# Altium footprint library STEP-footprint(24-05-26)12-08.PcbLib: 9 footprints
Each footprint in its own frame and in the unit in brackets; x right, y up, seen from the top. Pads: shape width x height; smd on the part's side, far side on the other; paste and mask are expansions set on the pad; w line width, h text height; cw(c..) or ccw(c..) is an arc to the next point about the centre after c.
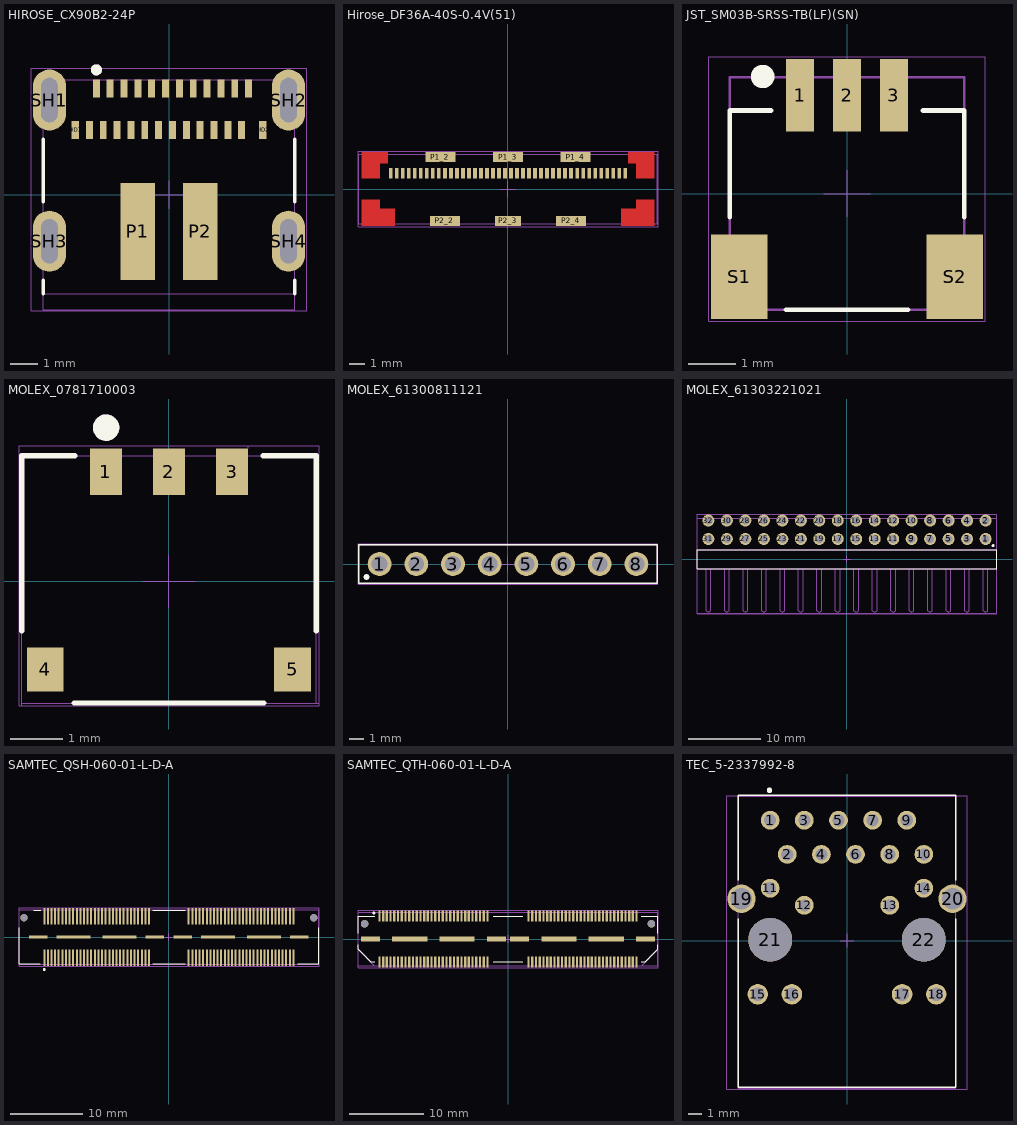
[diagram p0: the footprints below, top view; thin cyan lines are the x and y axes]

## HIROSE_CX90B2-24P [mm] "USB-C (USB TYPE-C) USB 3.2 Gen 2 (USB 3.1 Gen 2, Superspeed + (USB 3.1)) Receptacle Connector 24 Position Surface Mount, Right Angle; Through Hole"
height 3.32
pads (32):
  rect 0.25x0.65 smd: A1(-2.625,3.85) A2(-2.125,3.85) A3(-1.625,3.85) A4(-1.125,3.85) A5(-0.625,3.85) A6(-0.125,3.85) A7(0.375,3.85) A8(0.875,3.85) A9(1.375,3.85) A10(1.875,3.85) A11(2.375,3.85) A12(2.875,3.85) B1(2.625,2.35) B2(2.125,2.35) B3(1.625,2.35) B4(1.125,2.35) B5(0.625,2.35) B6(0.125,2.35) B7(-0.375,2.35) B8(-0.875,2.35) B9(-1.375,2.35) B10(-1.875,2.35) B11(-2.375,2.35) B12(-2.875,2.35)
  rect 0.27x0.65 smd: MID1(-3.385,2.35) MID2(3.385,2.35)
  rect 1.25x3.5 smd: P1(-1.125,-1.325) P2(1.125,-1.325)
  oval 1.2x2.2 hole 0.6 slot 1.6 at 90 deg: SH1(-4.32,3.425) SH2(4.32,3.425) SH3(-4.32,-1.675) SH4(4.32,-1.675)
Top Overlay:
  circle w0.2: c-2.625,4.516 r0.1
  lines w0.127: -4.545,-3.575 -4.545,-3.095 ; -4.545,-0.255 -4.545,2.005 ; 4.545,-3.575 4.545,-3.095 ; 4.545,-0.255 4.545,2.005
Top Assembly:
  circle w0.2: c-2.625,4.516 r0.1
  lines w0.01: -4.47,-3.575 4.47,-3.575 ; -0.5,0 0.5,0 ; 0,-0.5 0,0.5 ; -4.545,-4.145 -4.545,4.155 4.545,4.155 4.545,-4.145 -4.545,-4.145
  text "PCB EDGE" at -2.87,-3.378 h0.81
Top 3D Body:
  lines w0.01: -4.545,-4.145 4.545,-4.145 4.545,4.155 -4.545,4.155 -4.545,-4.145
Top Courtyard:
  lines w0.01: 4.97,-4.195 4.97,4.575 ; 4.97,-4.195 -4.97,-4.195 -4.97,4.575 4.97,4.575 ; 4.97,-4.195 4.97,4.575
3D body "CX90B2-24P_4800889000_3D_STEP.step": height 3.33, standoff -1.22, extent -4.545,-4.145 4.545,4.145

## Hirose_DF36A-40S-0.4V(51) [mm] "40 Position Receptacle Connector 0.016\" (0.40mm) Surface Mount Gold"
height 1.55
pads (50):
  rect 0.25x0.7 smd mask+0.05: 1(-7.8,1.05) 2(-7.4,1.05) 3(-7,1.05) 4(-6.6,1.05) 5(-6.2,1.05) 6(-5.8,1.05) 7(-5.4,1.05) 8(-5,1.05) 9(-4.6,1.05) 10(-4.2,1.05) 11(-3.8,1.05) 12(-3.4,1.05) 13(-3,1.05) 14(-2.6,1.05) 15(-2.2,1.05) 16(-1.8,1.05) 17(-1.4,1.05) 18(-1,1.05) 19(-0.6,1.05) 20(-0.2,1.05) 21(0.2,1.05) 22(0.6,1.05) 23(1,1.05) 24(1.4,1.05) 25(1.8,1.05) 26(2.2,1.05) 27(2.6,1.05) 28(3,1.05) 29(3.4,1.05) 30(3.8,1.05) 31(4.2,1.05) 32(4.6,1.05) 33(5,1.05) 34(5.4,1.05) 35(5.8,1.05) 36(6.2,1.05) 37(6.6,1.05) 38(7,1.05) 39(7.4,1.05) 40(7.8,1.05)
  round 0.025 smd mask+0.05: P1_1(-9.14,2.075) P1_5(9.14,2.075) P2_1(-9.14,-1.875) P2_5(9.14,-1.875)
  rect 2x0.65 smd mask+0.05: P1_2(-4.5,2.125) P1_3(0,2.125) P1_4(4.5,2.125) P2_2(-4.2,-2.125) P2_4(4.2,-2.125)
  rect 1.7x0.65 smd mask+0.05: P2_3(0,-2.125)
Top Layer:
  region: -9.735,-2.45 -7.55,-2.45 -7.55,-1.3 -8.545,-1.3 -8.545,-0.7 -9.735,-0.7
  region: 7.55,-2.45 7.55,-1.3 8.545,-1.3 8.545,-0.7 9.735,-0.7 9.735,-2.45
  region: 8,1.7 8,2.45 9.735,2.45 9.735,0.7 8.545,0.7 8.545,1.7
  region: -9.735,0.7 -9.735,2.45 -8,2.45 -8,1.7 -8.545,1.7 -8.545,0.7
Top Assembly:
  lines w0.01: -0.5,0 0.5,0 ; 0,-0.5 0,0.5 ; -9.93,-2.3 9.93,-2.3 9.93,2.3 -9.93,2.3 -9.93,-2.3
Top 3D Body:
  lines w0.01: -9.93,-2.3 9.93,-2.3 9.93,2.3 -9.93,2.3 -9.93,-2.3
Top Courtyard:
  lines w0.01: -9.98,-2.5 -9.98,2.5 9.98,2.5 9.98,-2.5 -9.98,-2.5
3D body "DF36A-40S-0.4V(51).step": height 1.63, standoff -0.02, extent -9.93,-2.3 9.93,2.3

## JST_SM03B-SRSS-TB(LF)(SN) [mm] "Connector Header Surface Mount, Right Angle 3 position 0.039\" (1.00mm)"
height 2.9
pads (5):
  rect 0.6x1.55 smd paste+0 mask+0.102: 1(-1,2.097) 2(0,2.097) 3(1,2.097)
  rect 1.2x1.8 smd paste+0 mask+0.102: S1(-2.3,-1.778) S2(2.3,-1.778)
Top Overlay:
  circle w0.3: c-1.8,2.497 r0.1
  lines w0.1: -2.5,-0.503 -2.5,1.772 -1.615,1.772 ; -1.3,-2.478 1.3,-2.478 ; 1.615,1.772 2.5,1.772 2.5,-0.503
Top Assembly:
  lines w0.01: -0.5,0 0.5,0 ; 0,-0.5 0,0.5 ; -2.5,-2.478 2.5,-2.478 ; -2.5,-2.478 -2.5,2.478 ; -2.5,-2.478 -2.5,2.478 ; -2.5,-2.478 2.5,-2.478 ; -2.5,2.478 2.5,2.478 ; -2.5,2.478 2.5,2.478 ; 2.5,-2.478 2.5,2.478 ; 2.5,-2.478 2.5,2.478
Top 3D Body:
  lines w0.05: -2.5,-2.478 2.5,-2.478 ; -2.5,-2.478 -2.5,2.478 ; -2.5,-2.478 -2.5,2.478 ; -2.5,-2.478 2.5,-2.478 ; -2.5,2.478 2.5,2.478 ; -2.5,2.478 2.5,2.478 ; 2.5,-2.478 2.5,2.478 ; 2.5,-2.478 2.5,2.478
Top Courtyard:
  lines w0.01: -2.95,-2.728 2.95,-2.728 2.95,2.922 -2.95,2.922 -2.95,-2.728
3D body "SM03B-SRSS-TB (LF)(SN)-EDIT.step": height 2.96, standoff -0.01, extent -2.5,-2.478 2.5,2.471

## MOLEX_0781710003 [mil] "Connector Header Surface Mount 3 position 0.047\" (1.20mm)"
height 67.72
pads (5):
  rect 24x35 smd: 1(-47.24,82) 2(0,82) 3(47.24,82)
  rect 27.56x33 smd: 4(-92.52,-65.87) 5(92.52,-65.87)
Top Overlay:
  circle w11.81: c-47,115 r3.94
  lines w3.94: -110.24,-36.99 -110.24,94.01 -70.24,94.01 ; -70.99,-91 71.01,-91 ; 70.25,94.01 110.25,94.01 110.25,-36.99
Top Assembly:
  circle w11.81: c-47,115 r3.94
  lines w0.39: -19.69,0 19.68,0 ; 0,-19.69 0,19.68 ; -110.24,-91 110.25,-91 110.25,94.01 -110.24,94.01 -110.24,-91
Top 3D Body:
  lines w0.39: -110.24,-91 -110.24,94.01 110.25,94.01 110.25,-91 -110.24,-91
Top Courtyard:
  lines w0.39: -112.2,94.01 -110.24,94.01 ; -110.24,-92.97 -110.24,-91 ; 59.24,99.5 59.24,101.47 ; 110.25,-91 112.22,-91 ; 59.24,101.47 112.22,101.47 112.22,-92.97 -112.2,-92.97 -112.2,101.47 59.24,101.47
3D body "0781710003.step": height 67.72, standoff 0, extent -110.24,-91.14 110.24,93.9

## MOLEX_61300811121 [mm] "Connector Header Through Hole 8 position 0.100\" (2.54mm)"
height 8.74
pads (8):
  round 1.65 hole 1.1: 1(-8.89,0) 2(-6.35,0) 3(-3.81,0) 4(-1.27,0) 5(1.27,0) 6(3.81,0) 7(6.35,0) 8(8.89,0)
Top Overlay:
  circle w0.2: c-9.8,-0.9 r0.1
  lines w0.1: -10.335,-1.345 10.335,-1.345 10.335,1.345 -10.335,1.345 -10.335,-1.345
Top Assembly:
  lines w0.01: -0.5,0 0.5,0 ; 0,-0.5 0,0.5 ; -10.335,-1.345 10.335,-1.345 10.335,1.345 -10.335,1.345 -10.335,-1.345
Top 3D Body:
  lines w0.01: -10.335,-1.345 -10.335,1.345 10.335,1.345 10.335,-1.345 -10.335,-1.345
Top Courtyard:
  lines w0.01: -10.385,-1.395 -10.385,1.395 10.385,1.395 10.385,-1.395 -10.385,-1.395
3D body "61300811121.step": height 8.64, standoff -3.1, extent -10.335,-1.345 10.335,1.345

## MOLEX_61303221021 [mm] "Connector Header Through Hole, Right Angle 32 position 0.100\" (2.54mm)"
height 5.28
pads (32):
  round 1.65 hole 1.1 mask+0.102: 1(19.05,2.77) 2(19.05,5.31) 3(16.51,2.77) 4(16.51,5.31) 5(13.97,2.77) 6(13.97,5.31) 7(11.43,2.77) 8(11.43,5.31) 9(8.89,2.77) 10(8.89,5.31) 11(6.35,2.77) 12(6.35,5.31) 13(3.81,2.77) 14(3.81,5.31) 15(1.27,2.77) 16(1.27,5.31) 17(-1.27,2.77) 18(-1.27,5.31) 19(-3.81,2.77) 20(-3.81,5.31) 21(-6.35,2.77) 22(-6.35,5.31) 23(-8.89,2.77) 24(-8.89,5.31) 25(-11.43,2.77) 26(-11.43,5.31) 27(-13.97,2.77) 28(-13.97,5.31) 29(-16.51,2.77) 30(-16.51,5.31) 31(-19.05,2.77) 32(-19.05,5.31)
Top Overlay:
  circle w0.2: c20.08,1.87 r0.1
  lines w0.1: -20.57,-1.32 20.57,-1.32 ; -20.57,-1.32 20.57,-1.32 ; -20.57,-1.32 -20.57,1.32 ; -20.57,-1.32 -20.57,1.32 ; -20.57,1.32 20.57,1.32 ; -20.57,1.32 20.57,1.32 ; 20.57,-1.32 20.57,1.32 ; 20.57,-1.32 20.57,1.32
Top Assembly:
  lines w0.01: -0.5,0 0.5,0 ; 0,-0.5 0,0.5 ; -20.57,-1.32 -20.57,1.32 ; -20.57,-1.32 -20.57,1.32 ; -20.57,-1.32 20.57,-1.32 ; -20.57,-1.32 20.57,-1.32 ; -20.57,1.32 20.57,1.32 ; -20.57,1.32 20.57,1.32 ; -19.37,-7.12 -19.05,-7.32 ; -19.37,-7.12 -19.37,-1.32 -19.37,-7.12 ; -19.37,-7.12 -19.05,-7.32 ; -19.05,-7.32 -18.73,-7.12 ; -19.05,-7.32 -18.73,-7.12 ; -18.73,-7.12 -18.73,-1.32 -18.73,-7.12 ; -16.83,-7.12 -16.83,-1.32 -16.83,-7.12 ; -16.83,-7.12 -16.51,-7.32 ; -16.83,-7.12 -16.51,-7.32 ; -16.51,-7.32 -16.19,-7.12 ; -16.51,-7.32 -16.19,-7.12 ; -16.19,-7.12 -16.19,-1.32 -16.19,-7.12 ; -14.29,-7.12 -14.29,-1.32 -14.29,-7.12 ; -14.29,-7.12 -13.97,-7.32 ; -14.29,-7.12 -13.97,-7.32 ; -13.97,-7.32 -13.65,-7.12 ; -13.97,-7.32 -13.65,-7.12 ; -13.65,-7.12 -13.65,-1.32 -13.65,-7.12 ; -11.75,-7.12 -11.43,-7.32 ; -11.75,-7.12 -11.75,-1.32 -11.75,-7.12 ; -11.75,-7.12 -11.43,-7.32 ; -11.43,-7.32 -11.11,-7.12 ; -11.43,-7.32 -11.11,-7.12 ; -11.11,-7.12 -11.11,-1.32 -11.11,-7.12 ; -9.21,-7.12 -8.89,-7.32 ; -9.21,-7.12 -9.21,-1.32 -9.21,-7.12 ; -9.21,-7.12 -8.89,-7.32 ; -8.89,-7.32 -8.57,-7.12 ; -8.89,-7.32 -8.57,-7.12 ; -8.57,-7.12 -8.57,-1.32 -8.57,-7.12 ; -6.67,-7.12 -6.67,-1.32 -6.67,-7.12 ; -6.67,-7.12 -6.35,-7.32 ; -6.67,-7.12 -6.35,-7.32 ; -6.35,-7.32 -6.03,-7.12 ; -6.35,-7.32 -6.03,-7.12 ; -6.03,-7.12 -6.03,-1.32 -6.03,-7.12 ; -4.13,-7.12 -3.81,-7.32 ; -4.13,-7.12 -4.13,-1.32 -4.13,-7.12 ; -4.13,-7.12 -3.81,-7.32 ; -3.81,-7.32 -3.49,-7.12 ; -3.81,-7.32 -3.49,-7.12 ; -3.49,-7.12 -3.49,-1.32 -3.49,-7.12 ; -1.59,-7.12 -1.59,-1.32 -1.59,-7.12 ; -1.59,-7.12 -1.27,-7.32 ; -1.59,-7.12 -1.27,-7.32 ; -1.27,-7.32 -0.95,-7.12 ; -1.27,-7.32 -0.95,-7.12 ; -0.95,-7.12 -0.95,-1.32 -0.95,-7.12 ; 0.95,-7.12 0.95,-1.32 0.95,-7.12 ; 0.95,-7.12 1.27,-7.32 ; 0.95,-7.12 1.27,-7.32 ; 1.27,-7.32 1.59,-7.12 ; 1.27,-7.32 1.59,-7.12 ; 1.59,-7.12 1.59,-1.32 1.59,-7.12 ; 3.49,-7.12 3.49,-1.32 3.49,-7.12 ; 3.49,-7.12 3.81,-7.32 ; 3.49,-7.12 3.81,-7.32 ; 3.81,-7.32 4.13,-7.12 ; 3.81,-7.32 4.13,-7.12 ; 4.13,-7.12 4.13,-1.32 4.13,-7.12 ; 6.03,-7.12 6.35,-7.32 ; 6.03,-7.12 6.03,-1.32 6.03,-7.12 ; 6.03,-7.12 6.35,-7.32 ; 6.35,-7.32 6.67,-7.12 ; 6.35,-7.32 6.67,-7.12 ; 6.67,-7.12 6.67,-1.32 6.67,-7.12 ; 8.57,-7.12 8.57,-1.32 8.57,-7.12 ; 8.57,-7.12 8.89,-7.32 ; 8.57,-7.12 8.89,-7.32 ; 8.89,-7.32 9.21,-7.12 ; 8.89,-7.32 9.21,-7.12 ; 9.21,-7.12 9.21,-1.32 9.21,-7.12 ; 11.11,-7.12 11.11,-1.32 11.11,-7.12 ; 11.11,-7.12 11.43,-7.32 ; 11.11,-7.12 11.43,-7.32 ; 11.43,-7.32 11.75,-7.12 ; 11.43,-7.32 11.75,-7.12 ; 11.75,-7.12 11.75,-1.32 11.75,-7.12 ; 13.65,-7.12 13.65,-1.32 13.65,-7.12 ; 13.65,-7.12 13.97,-7.32 ; 13.65,-7.12 13.97,-7.32 ; 13.97,-7.32 14.29,-7.12 ; 13.97,-7.32 14.29,-7.12 ; 14.29,-7.12 14.29,-1.32 14.29,-7.12 ; 16.19,-7.12 16.51,-7.32 ; 16.19,-7.12 16.19,-1.32 16.19,-7.12 ; 16.19,-7.12 16.51,-7.32 ; 16.51,-7.32 16.83,-7.12 ; 16.51,-7.32 16.83,-7.12 ; 16.83,-7.12 16.83,-1.32 16.83,-7.12 ; 18.73,-7.12 19.05,-7.32 ; 18.73,-7.12 18.73,-1.32 18.73,-7.12 ; 18.73,-7.12 19.05,-7.32 ; 19.05,-7.32 19.37,-7.12 ; 19.05,-7.32 19.37,-7.12 ; 19.37,-7.12 19.37,-1.32 19.37,-7.12 ; 20.57,-1.32 20.57,1.32 ; 20.57,-1.32 20.57,1.32 ; -20.57,-7.47 20.57,-7.47 20.57,5.63 -20.57,5.63 -20.57,-7.47
Top 3D Body:
  lines w0.01: -20.57,-7.47 -20.57,5.63 20.57,5.63 20.57,-7.47 -20.57,-7.47
Top Courtyard:
  lines w0.01: -20.62,-7.52 -20.62,6.185 20.62,6.185 20.62,-7.52 -20.62,-7.52
Top Assembly (Mech13):
  lines w0.01: -20.57,-1.32 -20.57,1.32 20.57,1.32 20.57,-1.32 -20.57,-1.32
3D body "61303221021.step": height 5.23, standoff -2.95, extent -20.57,-7.47 20.57,5.63

## SAMTEC_QSH-060-01-L-D-A [mm] "120 Position Connector Receptacle, Center Strip Contacts Surface Mount Gold"
height 3.18
pads (130):
  rect 0.279x2.27 smd: 1(-17.251,-2.865) 2(-17.251,2.865) 3(-16.752,-2.865) 4(-16.752,2.865) 5(-16.251,-2.865) 6(-16.251,2.865) 7(-15.752,-2.865) 8(-15.752,2.865) 9(-15.252,-2.865) 10(-15.252,2.865) 11(-14.751,-2.865) 12(-14.751,2.865) 13(-14.252,-2.865) 14(-14.252,2.865) 15(-13.751,-2.865) 16(-13.751,2.865) 17(-13.252,-2.865) 18(-13.252,2.865) 19(-12.752,-2.865) 20(-12.752,2.865) 21(-12.251,-2.865) 22(-12.251,2.865) 23(-11.752,-2.865) 24(-11.752,2.865) 25(-11.251,-2.865) 26(-11.251,2.865) 27(-10.751,-2.865) 28(-10.751,2.865) 29(-10.252,-2.865) 30(-10.252,2.865) 31(-9.751,-2.865) 32(-9.751,2.865) 33(-9.252,-2.865) 34(-9.252,2.865) 35(-8.751,-2.865) 36(-8.751,2.865) 37(-8.251,-2.865) 38(-8.251,2.865) 39(-7.752,-2.865) 40(-7.752,2.865) 41(-7.251,-2.865) 42(-7.251,2.865) 43(-6.752,-2.865) 44(-6.752,2.865) 45(-6.251,-2.865) 46(-6.251,2.865) 47(-5.751,-2.865) 48(-5.751,2.865) 49(-5.252,-2.865) 50(-5.252,2.865) 51(-4.751,-2.865) 52(-4.751,2.865) 53(-4.252,-2.865) 54(-4.252,2.865) 55(-3.752,-2.865) 56(-3.752,2.865) 57(-3.251,-2.865) 58(-3.251,2.865) 59(-2.752,-2.865) 60(-2.752,2.865) 61(2.752,-2.865) 62(2.752,2.865) 63(3.251,-2.865) 64(3.251,2.865) 65(3.752,-2.865) 66(3.752,2.865) 67(4.252,-2.865) 68(4.252,2.865) 69(4.751,-2.865) 70(4.751,2.865) 71(5.252,-2.865) 72(5.252,2.865) 73(5.751,-2.865) 74(5.751,2.865) 75(6.251,-2.865) 76(6.251,2.865) 77(6.752,-2.865) 78(6.752,2.865) 79(7.251,-2.865) 80(7.251,2.865) 81(7.752,-2.865) 82(7.752,2.865) 83(8.251,-2.865) 84(8.251,2.865) 85(8.751,-2.865) 86(8.751,2.865) 87(9.252,-2.865) 88(9.252,2.865) 89(9.751,-2.865) 90(9.751,2.865) 91(10.252,-2.865) 92(10.252,2.865) 93(10.751,-2.865) 94(10.751,2.865) 95(11.251,-2.865) 96(11.251,2.865) 97(11.752,-2.865) 98(11.752,2.865) 99(12.251,-2.865) 100(12.251,2.865) 101(12.752,-2.865) 102(12.752,2.865) 103(13.252,-2.865) 104(13.252,2.865) 105(13.751,-2.865) 106(13.751,2.865) 107(14.252,-2.865) 108(14.252,2.865) 109(14.751,-2.865) 110(14.751,2.865) 111(15.252,-2.865) 112(15.252,2.865) 113(15.752,-2.865) 114(15.752,2.865) 115(16.251,-2.865) 116(16.251,2.865) 117(16.752,-2.865) 118(16.752,2.865) 119(17.251,-2.865) 120(17.251,2.865)
  rect 2.54x0.43 smd: G1(-18.066,0) G4(-1.937,0) G5(1.937,0) G8(18.066,0)
  rect 4.7x0.43 smd: G2(-13.176,0) G3(-6.826,0) G6(6.826,0) G7(13.176,0)
  round 1.02 hole 1.02 unplated: ""(-20.067,2.67) ""(20.064,2.67)
Top Overlay:
  circle w0.2: c-17.251,-4.5 r0.1
  lines w0.1: -20.7,1.265 -20.7,-3.685 -17.795,-3.685 ; -18.731,3.685 -17.731,3.685 ; -2.231,-3.685 2.272,-3.685 ; -2.231,3.685 2.272,3.685 ; 17.835,-3.685 20.74,-3.685 20.74,1.265
Top Assembly:
  circle w0.2: c-17.251,-4.5 r0.1
  lines w0.01: -0.5,0 0.5,0 ; 0,-0.5 0,0.5 ; -20.7,-3.747 -20.7,3.747 20.74,3.747 20.74,-3.747 -20.7,-3.747
Top 3D Body:
  lines w0.01: -20.7,-3.747 -20.7,3.747 20.74,3.747 20.74,-3.747 -20.7,-3.747
Top Courtyard:
  lines w0.01: -20.75,-4.05 20.79,-4.05 20.79,4.05 -20.75,4.05 -20.75,-4.05
3D body "QSH-060-01-L-D-A.step": height 3.38, standoff -0.75, extent -20.7,-3.747 20.74,3.747

## SAMTEC_QTH-060-01-L-D-A [mm] "120 Position Connector Header, Outer Shroud Contacts Surface Mount Gold"
height 4.194
pads (130):
  rect 0.305x1.45 smd: 01(-17.25,3.086) 02(-17.25,-3.086) 03(-16.75,3.086) 04(-16.75,-3.086) 05(-16.25,3.086) 06(-16.25,-3.086) 07(-15.75,3.086) 08(-15.75,-3.086) 09(-15.25,3.086) 10(-15.25,-3.086) 11(-14.75,3.086) 12(-14.75,-3.086) 13(-14.25,3.086) 14(-14.25,-3.086) 15(-13.75,3.086) 16(-13.75,-3.086) 17(-13.25,3.086) 18(-13.25,-3.086) 19(-12.75,3.086) 20(-12.75,-3.086) 21(-12.25,3.086) 22(-12.25,-3.086) 23(-11.75,3.086) 24(-11.75,-3.086) 25(-11.25,3.086) 26(-11.25,-3.086) 27(-10.75,3.086) 28(-10.75,-3.086) 29(-10.25,3.086) 30(-10.25,-3.086) 31(-9.75,3.086) 32(-9.75,-3.086) 33(-9.25,3.086) 34(-9.25,-3.086) 35(-8.75,3.086) 36(-8.75,-3.086) 37(-8.25,3.086) 38(-8.25,-3.086) 39(-7.75,3.086) 40(-7.75,-3.086) 41(-7.25,3.086) 42(-7.25,-3.086) 43(-6.75,3.086) 44(-6.75,-3.086) 45(-6.25,3.086) 46(-6.25,-3.086) 47(-5.75,3.086) 48(-5.75,-3.086) 49(-5.25,3.086) 50(-5.25,-3.086) 51(-4.75,3.086) 52(-4.75,-3.086) 53(-4.25,3.086) 54(-4.25,-3.086) 55(-3.75,3.086) 56(-3.75,-3.086) 57(-3.25,3.086) 58(-3.25,-3.086) 59(-2.75,3.086) 60(-2.75,-3.086) 61(2.75,3.086) 62(2.75,-3.086) 63(3.25,3.086) 64(3.25,-3.086) 65(3.75,3.086) 66(3.75,-3.086) 67(4.25,3.086) 68(4.25,-3.086) 69(4.75,3.086) 70(4.75,-3.086) 71(5.25,3.086) 72(5.25,-3.086) 73(5.75,3.086) 74(5.75,-3.086) 75(6.25,3.086) 76(6.25,-3.09) 77(6.75,3.086) 78(6.75,-3.086) 79(7.25,3.086) 80(7.25,-3.086) 81(7.75,3.086) 82(7.75,-3.086) 83(8.25,3.086) 84(8.25,-3.086) 85(8.75,3.086) 86(8.75,-3.086) 87(9.25,3.086) 88(9.25,-3.086) 89(9.75,3.086) 90(9.75,-3.086) 91(10.25,3.086) 92(10.25,-3.086) 93(10.75,3.086) 94(10.75,-3.086) 95(11.25,3.086) 96(11.25,-3.086) 97(11.75,3.086) 98(11.75,-3.086) 99(12.25,3.086) 100(12.25,-3.086) 101(12.75,3.086) 102(12.75,-3.086) 103(13.25,3.086) 104(13.25,-3.086) 105(13.75,3.086) 106(13.75,-3.086) 107(14.25,3.086) 108(14.25,-3.086) 109(14.75,3.086) 110(14.75,-3.086) 111(15.25,3.086) 112(15.25,-3.086) 113(15.75,3.086) 114(15.75,-3.086) 115(16.25,3.086) 116(16.25,-3.086) 117(16.75,3.086) 118(16.75,-3.086) 119(17.25,3.086) 120(17.25,-3.086)
  rect 2.54x0.64 smd: G1(-18.44,0) G4(-1.56,0) G5(1.56,0) G8(18.44,0)
  rect 4.7x0.64 smd: G2(-13.181,0) G3(-6.831,0) G6(6.831,0) G7(13.181,0)
  round 1.02 hole 1.02 unplated: ""(-19.24,2.03) ""(19.24,2.03)
Top Overlay:
  circle w0.2: c-18,3.5 r0.1
  lines w0.1: -20.07,-0.765 -20.07,-1.396 -18.411,-3.05 -17.865,-3.05 ; -20.07,0.765 -20.07,3.05 -17.865,3.05 ; -2,-3.05 2,-3.05 ; -2,3.05 2,3.05 ; 17.865,-3.05 18.411,-3.05 20.07,-1.396 20.07,-0.765 ; 17.865,3.05 20.07,3.05 20.07,0.765
Top Assembly:
  circle w0.2: c-18,3.5 r0.1
  lines w0.01: -0.5,0 0.5,0 ; 0,-0.5 0,0.5 ; -20.07,-1.393 -20.07,3.556 20.07,3.556 20.07,-1.393 17.907,-3.556 -17.907,-3.556 -20.07,-1.393
Top 3D Body:
  lines w0.01: -20.07,-3.556 20.07,-3.556 20.07,3.556 -20.07,3.556 -20.07,-3.556
Top Courtyard:
  lines w0.01: -20.12,-3.861 -20.12,3.861 17.403,3.861 20.12,3.861 20.12,-3.861 -20.12,-3.861
3D body "QTH-060-01-L-D-A.step": height 4.4, standoff -0.76, extent -20.07,-3.556 20.07,3.556

## TEC_5-2337992-8 [mil]
height 547.24
pads (22):
  round 55 hole 35.43 mask+4.02: 1(-225,352.5) 2(-175,252.5) 3(-125,352.5) 4(-75,252.5) 5(-25,352.5) 6(25,252.5) 7(75,352.5) 8(125,252.5) 9(175,352.5) 10(225,252.5) 11(-225,153.31) 12(-125,103.31) 13(125,103.31) 14(225,153.31)
  round 60 hole 40.16 mask+4.02: 15(-261.42,-157.32) 16(-161.42,-157.32) 17(161.42,-157.32) 18(261.42,-157.32)
  round 83 hole 63 mask+4.02: 19(-309.06,122.6) 20(309.06,122.6)
  round 128 hole 127.95 mask+4.02: 21(-225,2.5) 22(225,2.5)
Top Overlay:
  circle w7.87: c-227,440 r3.94
  lines w3.94: -318,64.29 -318,-429.71 318,-429.71 318,64.29 ; -318,176.17 -318,425.17 318,425.17 318,176.17
Top Assembly:
  circle w7.87: c-227,440 r3.94
  lines w0.39: -19.69,0 19.68,0 ; 0,-19.69 0,19.68 ; -318.8,-432.65 -318.8,422.25 318.8,422.25 318.8,-432.65 -318.8,-432.65
Top 3D Body:
  lines w0.39: -318.8,-432.65 -318.8,422.25 318.8,422.25 318.8,-432.65 -318.8,-432.65
Top Courtyard:
  lines w0.39: -352.52,-434.62 352.52,-434.62 352.52,424.22 -352.52,424.22 -352.52,-434.62
3D body "c-5-2337992-8-a-3d-edit.step": height 541.34, standoff -151.57, extent -318.79,-432.65 318.79,422.24